# Altium footprint library HLK-7621-ALL-KIT-V1.0.PcbLib: 28 footprints (part 2 of 2)
Each footprint in its own frame and in the unit in brackets; x right, y up, seen from the top. Pads: shape width x height; smd on the part's side, far side on the other; paste and mask are expansions set on the pad; w line width, h text height; cw(c..) or ccw(c..) is an arc to the next point about the centre after c.
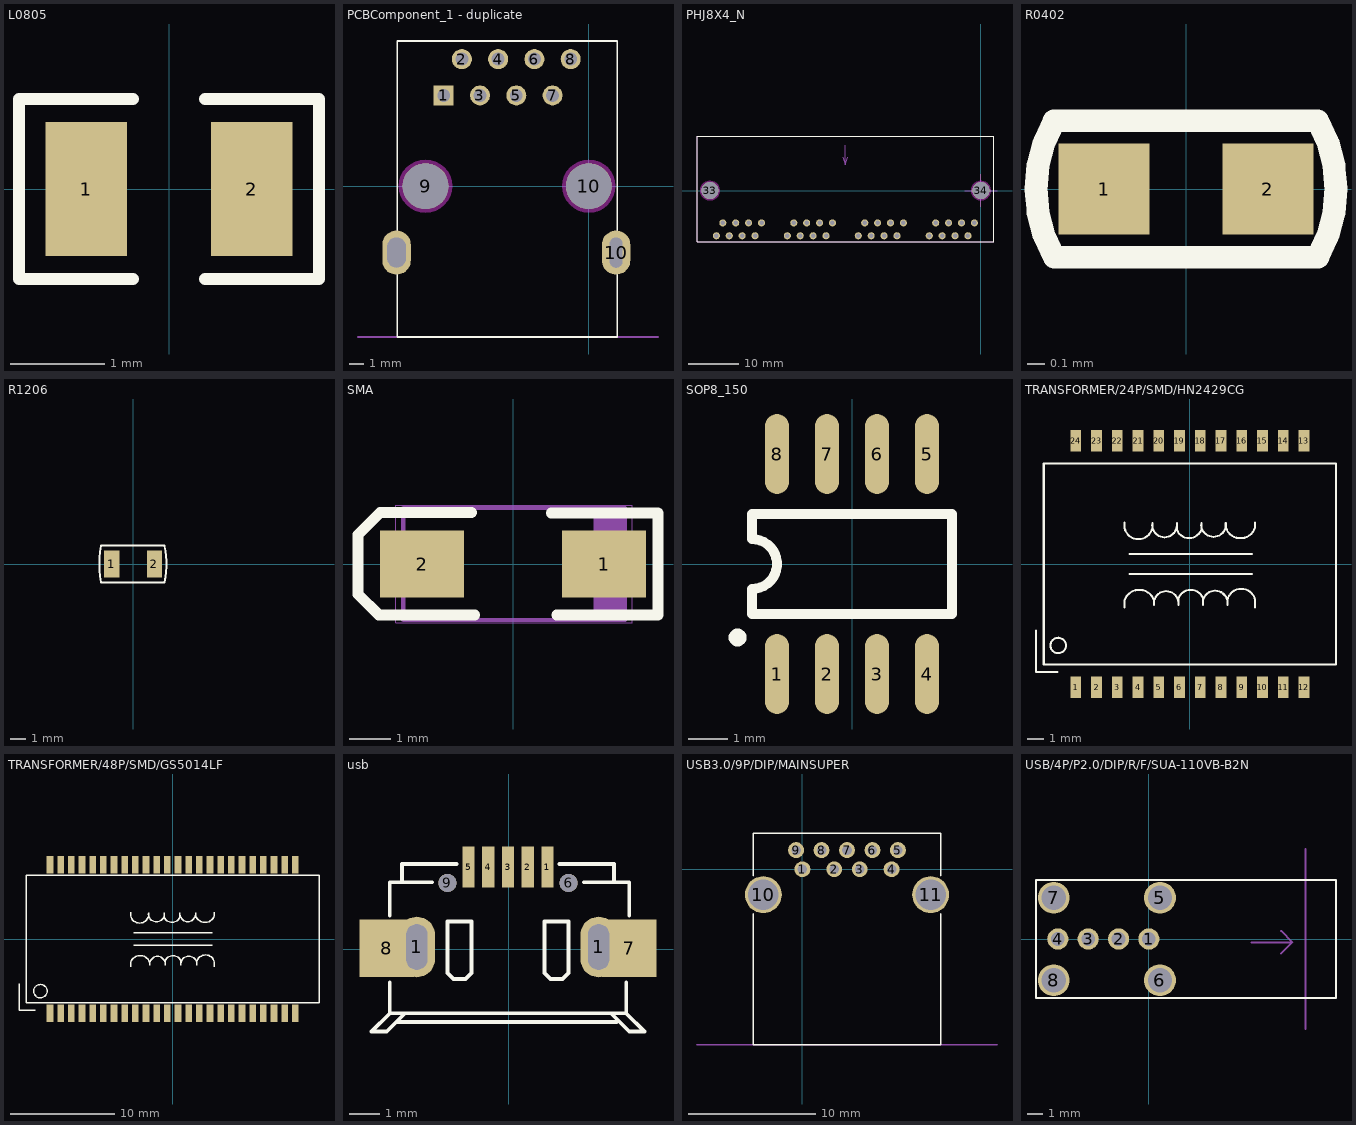
[diagram p1: the footprints below, top view; thin cyan lines are the x and y axes]

## L0805 [mil]
height 55.12
pads (2):
  rect 34x56 smd: 1(-34.45,0) 2(34.45,0)
Top Overlay:
  lines w5: -15,-37.5 -62.5,-37.5 -62.5,37.5 -15,37.5 ; 15,-37.5 62.5,-37.5 62.5,37.5 15,37.5

## PCBComponent_1 - duplicate [mm]
pads (12):
  rect 1.4x1.4 / inner round 1.4 / far side rect 1.4x1.4 hole 0.9: 1(-10.16,6.35)
  round 1.4 hole 0.9: 2(-8.89,8.89) 3(-7.62,6.35) 4(-6.35,8.89) 5(-5.08,6.35) 6(-3.81,8.89) 7(-2.54,6.35) 8(-1.27,8.89)
  round 3.2 hole 3.2 unplated: 9(-11.43,0) 10(0,0)
  oval 2x3.1 hole 0.9 slot 2.1 at 90 deg: 10(1.905,-4.65)
  oval 2x3.1 hole 1.3 slot 2.1 at 90 deg: ""(-13.462,-4.65)
Top Overlay:
  lines w0.127: -13.415,-10.55 -13.415,10.15 1.985,10.15 1.985,-10.55 -13.415,-10.55
Keep-Out Layer:
  pour cut-out: 1.863,0 1.827,0.363 1.721,0.713 1.549,1.035 1.317,1.317 1.035,1.549 0.713,1.721 0.363,1.827 0,1.863 -0.363,1.827 -0.713,1.721 -1.035,1.549 -1.317,1.317 -1.549,1.035 -1.721,0.713 -1.827,0.363 -1.863,0 -1.827,-0.363 -1.721,-0.713 -1.549,-1.035 -1.317,-1.317 -1.035,-1.549 -0.713,-1.721 -0.363,-1.827 0,-1.863 0.363,-1.827 0.713,-1.721 1.035,-1.549 1.317,-1.317 1.549,-1.035 1.721,-0.713 1.827,-0.363
  pour cut-out: -9.567,0 -9.603,0.363 -9.709,0.713 -9.881,1.035 -10.113,1.317 -10.395,1.549 -10.717,1.721 -11.067,1.827 -11.43,1.863 -11.793,1.827 -12.143,1.721 -12.465,1.549 -12.747,1.317 -12.979,1.035 -13.151,0.713 -13.257,0.363 -13.293,0 -13.257,-0.363 -13.151,-0.713 -12.979,-1.035 -12.747,-1.317 -12.465,-1.549 -12.143,-1.721 -11.793,-1.827 -11.43,-1.863 -11.067,-1.827 -10.717,-1.721 -10.395,-1.549 -10.113,-1.317 -9.881,-1.035 -9.709,-0.713 -9.603,-0.363
Mechanical 16:
  lines w0.127: -16.16,-10.55 4.84,-10.55

## PHJ8X4_N [mil]
height 525
pads (34):
  round 55 hole 35: 1(-50,-250) 2(-100,-350) 3(-150,-250) 4(-200,-350) 5(-250,-250) 6(-300,-350) 7(-350,-250) 8(-400,-350) 9(-600,-250) 10(-650,-350) 11(-700,-250) 12(-750,-350) 13(-800,-250) 14(-850,-350) 15(-900,-250) 16(-950,-350) 17(-1150,-250) 18(-1200,-350) 19(-1250,-250) 20(-1300,-350) 21(-1350,-250) 22(-1400,-350) 23(-1450,-250) 24(-1500,-350) 25(-1700,-250) 26(-1750,-350) 27(-1800,-250) 28(-1850,-350) 29(-1900,-250) 30(-1950,-350) 31(-2000,-250) 32(-2050,-350)
  round 132 hole 132 unplated: 33(-2100,0) 34(0,0)
Top Overlay:
  lines w5: -2200,-395 100,-395 100,420 -2200,420 -2200,-395
Keep-Out Layer:
  pour cut-out: -2024,0 -2024,7.49 -2026.92,22.17 -2032.65,36 -2040.97,48.45 -2051.55,59.03 -2064,67.35 -2077.83,73.08 -2092.51,76 -2100,76 -2107.49,76 -2122.17,73.08 -2136,67.35 -2148.45,59.03 -2159.03,48.45 -2167.35,36 -2173.08,22.17 -2176,7.49 -2176,0 -2176,-7.49 -2173.08,-22.17 -2167.35,-36 -2159.03,-48.45 -2148.45,-59.03 -2136,-67.35 -2122.17,-73.08 -2107.49,-76 -2100,-76 -2092.51,-76 -2077.83,-73.08 -2064,-67.35 -2051.55,-59.03 -2040.97,-48.45 -2032.65,-36 -2026.92,-22.17 -2024,-7.49
  pour cut-out: 76,0 76,7.49 73.08,22.17 67.35,36 59.03,48.45 48.45,59.03 36,67.35 22.17,73.08 7.49,76 0,76 -7.49,76 -22.17,73.08 -36,67.35 -48.45,59.03 -59.03,48.45 -67.35,36 -73.08,22.17 -76,7.49 -76,0 -76,-7.49 -73.08,-22.17 -67.35,-36 -59.03,-48.45 -48.45,-59.03 -36,-67.35 -22.17,-73.08 -7.49,-76 0,-76 7.49,-76 22.17,-73.08 36,-67.35 48.45,-59.03 59.03,-48.45 67.35,-36 73.08,-22.17 76,-7.49
Mechanical 17:
  lines w5: -1070,260 -1050,200 ; -1050,350 -1050,200 ; -1030,260 -1050,200 ; -124.95,0 125.05,0 ; 0,-125 0,125
Mechanical 18:
  lines w5: -2200,-395 -2200,420 100,420 100,-395 -2200,-395

## R0402 [mil]
pads (2):
  rect 20x20 smd: 1(-18,0) 2(18,0)
Top Overlay:
  lines w5: -29.02,14.97 ccw(c-2.88,0) -28.99,-15.02 29,-15 ; -29,15 29,15 cw(c2.88,0) 29.02,-14.97

## R1206 [mm]
height 1.2
pads (2):
  rect 1x1.8 smd: 1(-1.4,0) 2(1.4,0)
Top Overlay:
  lines w0.127: -2.1,-1.2 2.05,-1.2 ; -2.1,1.2 2.05,1.2 ; -2.1,-1.201 cw(c5,0) -2.1,1.201 ; 2.049,1.204 cw(c-2.642,0) 2.051,-1.196

## SMA [mm]
height 1.99
pads (2):
  rect 2x1.6 smd: 1(2.175,0) 2(-2.175,0)
Top Overlay:
  lines w0.254: -0.991,1.23 -3.175,1.23 -3.705,0.7 -3.705,-0.72 -3.205,-1.22 -0.915,-1.22 ; 0.914,1.22 3.465,1.22 3.465,-1.22 1.041,-1.22
Mechanical 15:
  lines w0.1: 1.973,-1.335 1.973,1.335 ; 2.072,-1.335 2.072,1.335 ; 2.173,-1.335 2.173,1.335 ; 2.273,-1.335 2.273,1.335 ; 2.373,-1.335 2.373,1.335 ; 2.473,-1.335 2.473,1.335 ; 2.573,-1.335 2.573,1.335 ; -2.623,-1.335 2.673,-1.335 2.673,1.335 -2.623,1.335 -2.623,-1.335
Mechanical 16:
  lines w0.001: -2.805,-1.4 2.855,-1.4 2.855,1.4 -2.805,1.4 -2.805,-1.4
3D body "User Library-DO-214AC(SMA).step": height 2.44, standoff 0.16, extent -2.718,-1.397 2.768,1.397

## SOP8_150 [mil]
height 78.35
pads (8):
  oval 24x80 smd: 1(-75,-110) 2(-25,-110) 3(25,-110) 4(75,-110) 5(75,110) 6(25,110) 7(-25,110) 8(-75,110)
Top Overlay:
  circle w10: c-114.46,-73.5 r3.94
  lines w10: -100,-50 -100,-25 ccw(c-100,0) -100,25 -100,50 100,50 100,-50 -100,-50
3D body "SOP8.step": height 67, standoff 0, extent -95.01,-118 94.99,118

## TRANSFORMER/24P/SMD/HN2429CG [mm]
height 6.8
pads (24):
  rect 0.66x1.3 smd: 1(-6.985,-7.55) 2(-5.715,-7.55) 3(-4.445,-7.55) 4(-3.175,-7.55) 5(-1.905,-7.55) 6(-0.635,-7.55) 7(0.635,-7.55) 8(1.905,-7.55) 9(3.175,-7.55) 10(4.445,-7.55) 11(5.715,-7.55) 12(6.985,-7.55) 13(6.985,7.55) 14(5.715,7.55) 15(4.445,7.55) 16(3.175,7.55) 17(1.905,7.55) 18(0.635,7.55) 19(-0.635,7.55) 20(-1.905,7.55) 21(-3.175,7.55) 22(-4.445,7.55) 23(-5.715,7.55) 24(-6.985,7.55)
Top Overlay:
  circle w0.127: c-8.064,-4.991 r0.473
  lines w0.127: -9.423,-4.087 -9.423,-6.617 -8.113,-6.617 ; -4,-2.667 -4,-2.225 ; -4,-2.226 cw(c-3.1,-2.525) -2.2,-2.224 ; -4,2.54 -4,2.199 ccw(c-3.15,2.389) -2.3,2.199 -2.3,2.5 ccw(c-1.55,2.391) -0.8,2.5 -0.8,2.1 ; -3.7,-0.6 3.8,-0.6 ; -3.7,0.6 3.8,0.6 ; -2.2,-2.225 -2.2,-2.5 cw(c-1.45,-2.417) -0.7,-2.5 -0.7,-2.1 cw(c0.05,-2.39) 0.8,-2.099 ; -0.8,2.099 ccw(c-0.05,2.39) 0.7,2.101 0.7,2.5 ccw(c1.45,2.417) 2.2,2.5 2.2,2.225 ccw(c3.1,2.526) 4,2.225 4,2.54 ; 0.8,-2.1 0.8,-2.5 cw(c1.55,-2.391) 2.3,-2.5 2.3,-2.199 cw(c3.15,-2.389) 4,-2.199 4,-2.667 ; -8.95,-6.15 -8.95,6.15 8.95,6.15 8.95,-6.15 -8.95,-6.15

## TRANSFORMER/48P/SMD/GS5014LF [mm]
height 7.2
pads (48):
  rect 0.64x1.7 smd: 1(-11.73,-7.1) 2(-10.71,-7.1) 3(-9.69,-7.1) 4(-8.67,-7.1) 5(-7.65,-7.1) 6(-6.63,-7.1) 7(-5.61,-7.1) 8(-4.59,-7.1) 9(-3.57,-7.1) 10(-2.55,-7.1) 11(-1.53,-7.1) 12(-0.51,-7.1) 13(0.51,-7.1) 14(1.53,-7.1) 15(2.55,-7.1) 16(3.57,-7.1) 17(4.59,-7.1) 18(5.61,-7.1) 19(6.63,-7.1) 20(7.65,-7.1) 21(8.67,-7.1) 22(9.69,-7.1) 23(10.71,-7.1) 24(11.73,-7.1) 25(11.73,7.1) 26(10.71,7.1) 27(9.69,7.1) 28(8.67,7.1) 29(7.65,7.1) 30(6.63,7.1) 31(5.61,7.1) 32(4.59,7.1) 33(3.57,7.1) 34(2.55,7.1) 35(1.53,7.1) 36(0.51,7.1) 37(-0.51,7.1) 38(-1.53,7.1) 39(-2.55,7.1) 40(-3.57,7.1) 41(-4.59,7.1) 42(-5.61,7.1) 43(-6.63,7.1) 44(-7.65,7.1) 45(-8.67,7.1) 46(-9.69,7.1) 47(-10.71,7.1) 48(-11.73,7.1)
Top Overlay:
  circle w0.127: c-12.642,-4.986 r0.64
  lines w0.127: -14.691,-4.303 -14.691,-6.833 -13.122,-6.833 ; -4,-2.667 -4,-2.225 ; -4,-2.226 cw(c-3.1,-2.525) -2.2,-2.224 ; -4,2.54 -4,2.199 ccw(c-3.15,2.389) -2.3,2.199 -2.3,2.5 ccw(c-1.55,2.391) -0.8,2.5 -0.8,2.1 ; -3.7,-0.6 3.8,-0.6 ; -3.7,0.6 3.8,0.6 ; -2.2,-2.225 -2.2,-2.5 cw(c-1.45,-2.417) -0.7,-2.5 -0.7,-2.1 cw(c0.05,-2.39) 0.8,-2.099 ; -0.8,2.099 ccw(c-0.05,2.39) 0.7,2.101 0.7,2.5 ccw(c1.45,2.417) 2.2,2.5 2.2,2.225 ccw(c3.1,2.526) 4,2.225 4,2.54 ; 0.8,-2.1 0.8,-2.5 cw(c1.55,-2.391) 2.3,-2.5 2.3,-2.199 cw(c3.15,-2.389) 4,-2.199 4,-2.667 ; -14,-6.1 -14,6.1 14,6.1 14,-6.1 -14,-6.1

## usb [mm]
pads (11):
  oval 1.2x2 hole 0.7 slot 1.5 at 90 deg: 1(-3.028,0.081) 1(2.972,0.081)
  rect 0.4x1.35 smd: 1(1.28,2.719) 2(0.63,2.719) 3(-0.02,2.719) 4(-0.67,2.719) 5(-1.32,2.719)
  round 0.6 hole 0.6: 6(1.98,2.194) 9(-2.02,2.194)
  rect 1.8x1.9 smd: 7(3.98,0.044) 8(-4.02,0.044)
Top Overlay:
  lines w0.127: -3.92,-1.081 -3.92,-2.106 ; -3.92,1.119 -3.92,2.219 -2.52,2.219 ; -3.704,-2.391 3.571,-2.391 ; -3.52,2.219 -3.52,2.819 -1.72,2.819 ; -3.42,-2.106 -4.02,-2.706 -4.52,-2.706 -3.92,-2.106 ; 1.68,2.819 3.48,2.819 3.48,2.219 ; 2.48,2.219 3.98,2.219 3.98,1.119 ; 3.38,-2.106 3.98,-2.706 4.48,-2.706 3.88,-2.106 ; 3.88,-1.081 3.88,-2.106 ; -3.92,-2.106 3.88,-2.106 ; -2.02,-0.781 -2.02,0.919 -1.22,0.919 -1.22,-0.781 -1.42,-0.981 -1.82,-0.981 -2.02,-0.781 ; 1.18,-0.781 1.38,-0.981 1.78,-0.981 1.98,-0.781 1.98,0.919 1.18,0.919 1.18,-0.781

## USB3.0/9P/DIP/MAINSUPER [mm]
height 7
pads (11):
  round 1.25 hole 0.75: 1(0,0) 2(2.5,0) 3(4.5,0) 4(7,0) 5(7.5,1.5) 6(5.5,1.5) 7(3.5,1.5) 8(1.5,1.5) 9(-0.5,1.5)
  round 2.9 hole 2.4: 10(-3.07,-2) 11(10.07,-2)
Top Overlay:
  lines w0.127: -3.85,-3.5 -3.85,-13.78 10.85,-13.78 10.85,-3.5 ; -3.85,-0.5 -3.85,2.82 10.85,2.82 10.85,-0.5
Mechanical 17:
  lines w0.127: -8.28,-13.78 15.28,-13.78

## USB/4P/P2.0/DIP/R/F/SUA-110VB-B2N [mm]
height 14.7
pads (8):
  round 1.4 hole 0.9: 1(0,0) 2(-2,0) 3(-4,0) 4(-6,0)
  round 2.1 hole 1.6: 5(0.73,2.72) 6(0.73,-2.72) 7(-6.27,2.72) 8(-6.27,-2.72)
Top Overlay:
  lines w0.127: -7.44,-3.9 12.33,-3.9 12.33,3.9 -7.44,3.9 -7.44,-3.9
Mechanical 17:
  lines w0.127: 6.751,-0.229 9.302,-0.229 ; 8.704,-0.962 9.452,-0.213 8.712,0.528 ; 10.33,-5.935 10.33,5.935